# EAGLE library part 23/2 (library FHD-Connectors)
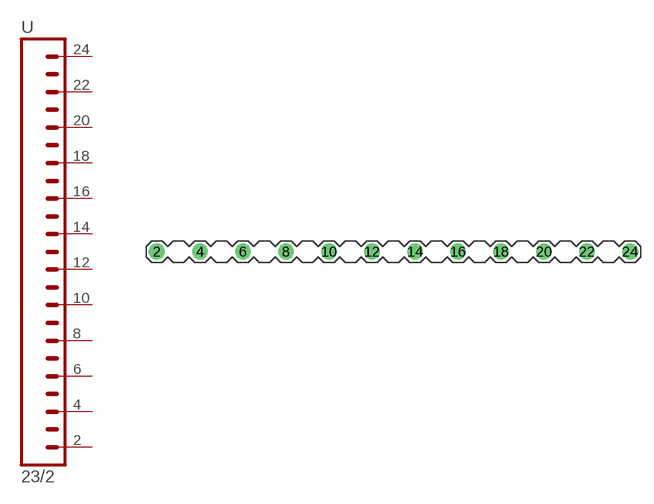
[diagram p3: symbol with the pads of 1X23; footprint 1X23]

Designator prefix -

## 23/2  [1X23]
2  2  pas
4  4  pas
6  6  pas
8  8  pas
10  10  pas
12  12  pas
14  14  pas
16  16  pas
18  18  pas
20  20  pas
22  22  pas
24  24  pas

## Footprint 1X23 (pad centres in mm)
drill 1.016 pad 1.88: 2 -26.67,0; 4 -21.59,0; 6 -16.51,0; 8 -11.43,0; 10 -6.35,0; 12 -1.27,0; 14 3.81,0; 16 8.89,0; 18 13.97,0; 20 19.05,0; 22 24.13,0; 24 29.21,0